# Altium footprint library Recom.PcbLib: 1 footprints
Each footprint in its own frame and in the unit in brackets; x right, y up, seen from the top. Pads: shape width x height; smd on the part's side, far side on the other; paste and mask are expansions set on the pad; w line width, h text height; cw(c..) or ccw(c..) is an arc to the next point about the centre after c.
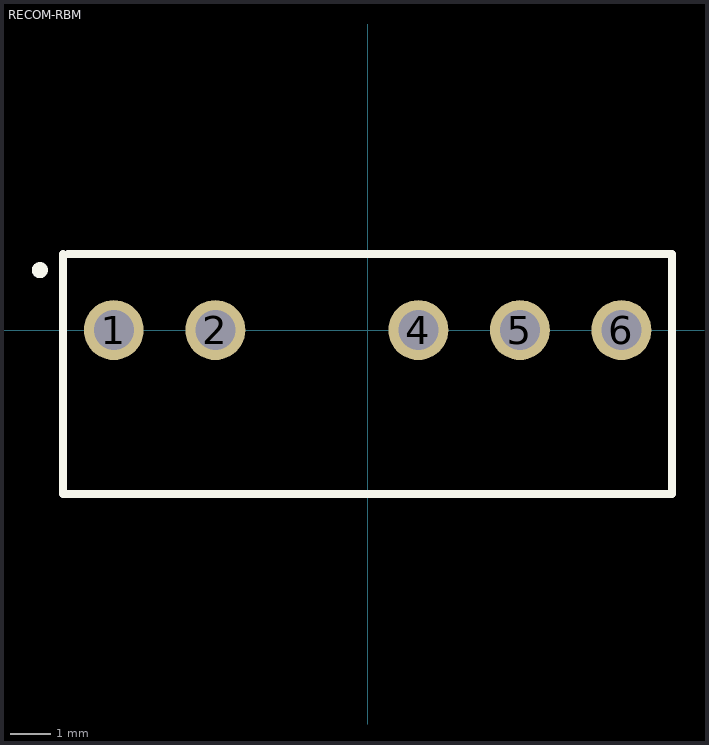
[diagram p0: the footprint, top view; thin cyan lines are the x and y axes]

## RECOM-RBM [mm]
height 7.7
pads (5):
  round 1.5 hole 1: 1(-6.35,0) 2(-3.81,0) 4(1.27,0) 5(3.81,0) 6(6.35,0)
Top Overlay:
  circle w0.2: c-8.2,1.5 r0.1
  lines w0.2: -7.62,1.9 -7.62,-4.1 7.62,-4.1 7.62,1.9 -7.5,1.9
3D body: height 7.7, standoff 0, extent -7.6,-4.1 7.6,1.9